# Altium footprint library testpad.PCBLIB: 38 footprints (part 1 of 3)
Each footprint in its own frame and in the unit in brackets; x right, y up, seen from the top. Pads: shape width x height; smd on the part's side, far side on the other; paste and mask are expansions set on the pad; w line width, h text height; cw(c..) or ccw(c..) is an arc to the next point about the centre after c.
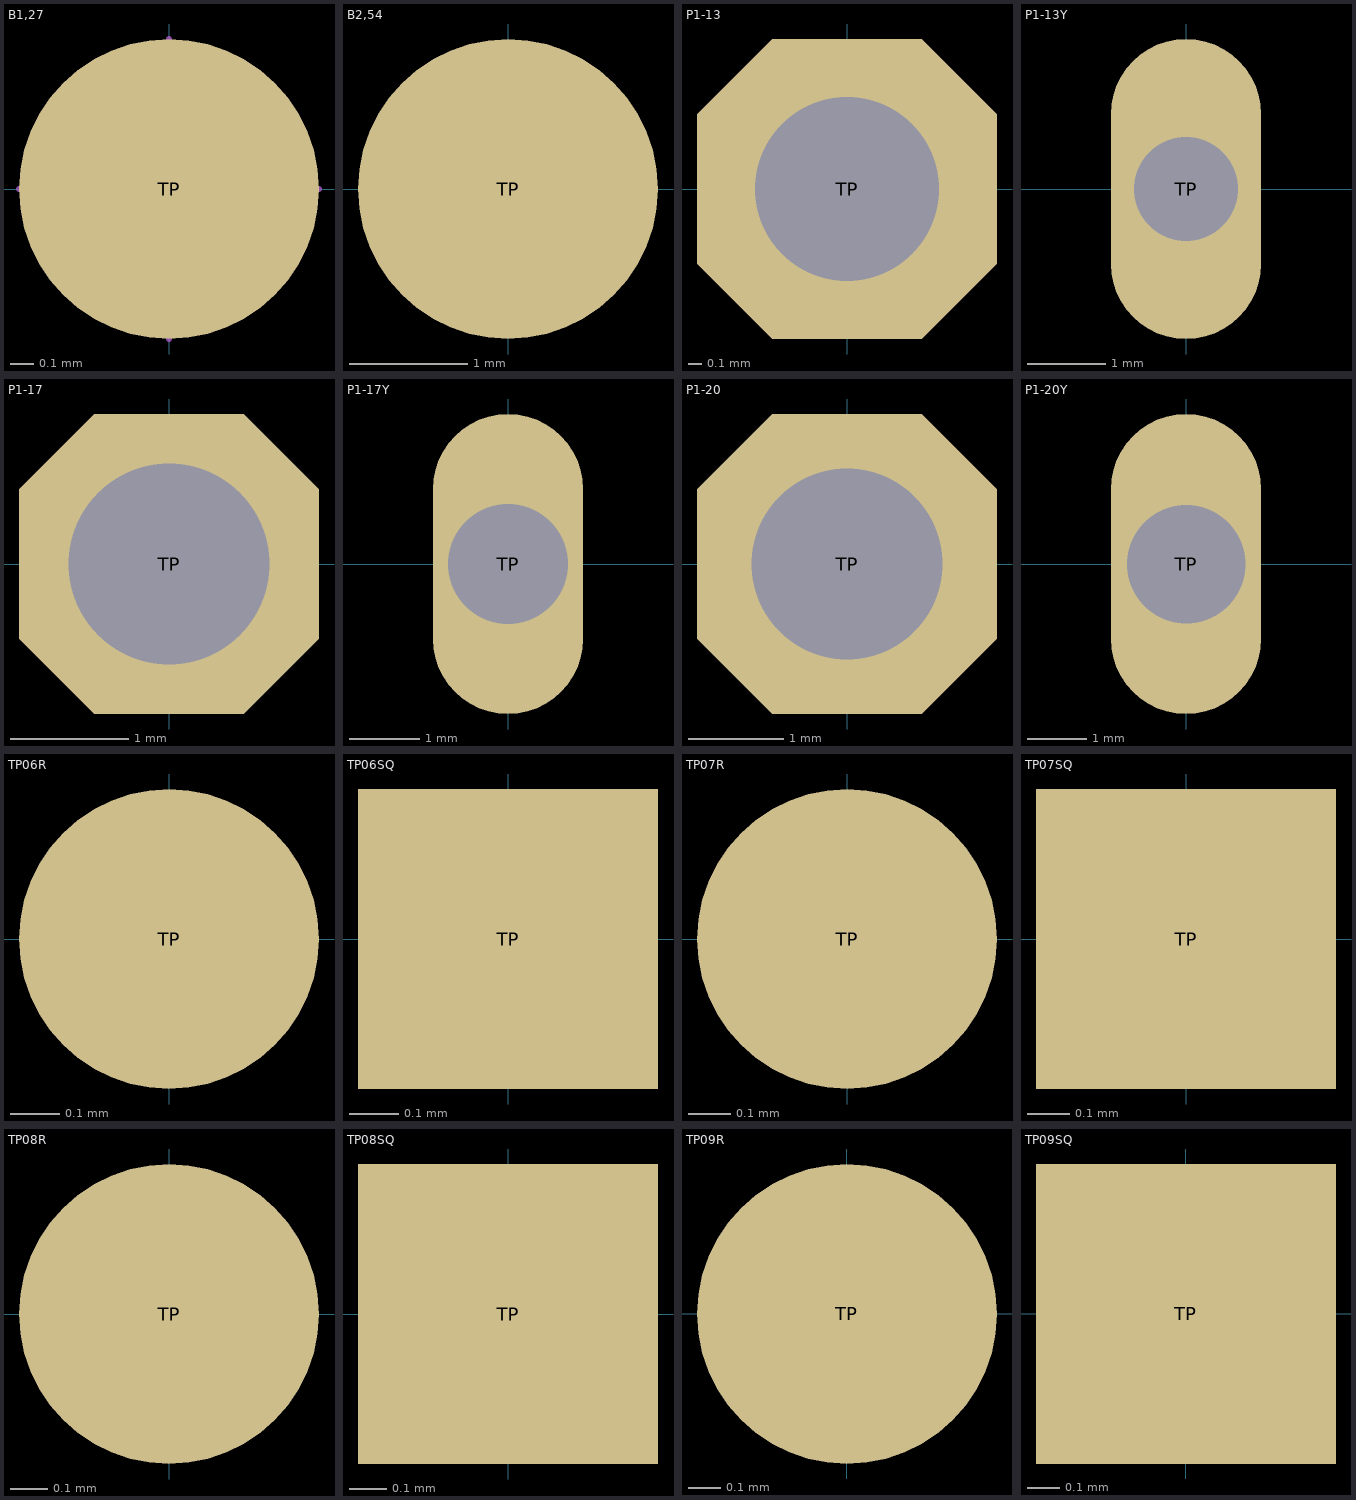
[diagram p0: the footprints below, top view; thin cyan lines are the x and y axes]

## B1,27 [mil]
pads (1):
  rrect100% 50x50 smd: TP(0,0)
Mech33:
  lines w1: -25,0 25,0 ; 0,-25 0,25
  text ">TP_SIGNAL_NAME" at -25,-75 h62

## B2,54 [mil]
pads (1):
  rrect100% 100x100 smd: TP(0,0)
Mech33:
  circle w10: c0,0 r25
  lines w1: -25,0 25,0 ; 0,-25 0,25
  text ">TP_SIGNAL_NAME" at -50,-125 h62

## P1-13 [mil]
pads (1):
  oct 85x85 hole 52: TP(0,0)
Mechanical 16:
  circle w6: c0,0 r30
  rectangle: -13,-13 13,13
Mech33:
  text ">TP_SIGNAL_NAME" at -50,-100 h62

## P1-13Y [mil]
pads (1):
  oval 75x150 hole 52: TP(0,0)
Mechanical 16:
  circle w6: c0,0 r30
  rectangle: -13,-13 13,13
Mech33:
  text ">TP_SIGNAL_NAME" at -50,-150 h62

## P1-17 [mil]
pads (1):
  oct 100x100 hole 67: TP(0,0)
Mechanical 16:
  circle w6: c0,0 r32
  rectangle: -13,-13 13,13
Mech33:
  text ">TP_SIGNAL_NAME" at -50,-125 h62

## P1-17Y [mil]
pads (1):
  oval 84x168 hole 67: TP(0,0)
Mechanical 16:
  circle w6: c0,0 r32
  rectangle: -13,-13 13,13
Mech33:
  text ">TP_SIGNAL_NAME" at -50,-150 h62

## P1-20 [mil]
pads (1):
  oct 124x124 hole 79: TP(0,0)
Mechanical 16:
  circle w6: c0,0 r40
  rectangle: -13,-13 13,13
Mech33:
  text ">TP_SIGNAL_NAME" at -50,-125 h62

## P1-20Y [mil]
pads (1):
  oval 100x200 hole 79: TP(0,0)
Mechanical 16:
  circle w6: c0,0 r40
  rectangle: -13,-13 13,13
Mech33:
  text ">TP_SIGNAL_NAME" at -50,-175 h62

## TP06R [mil]
pads (1):
  rrect100% 24x24 smd: TP(0,0)
Mech33:
  text ">TP_SIGNAL_NAME" at 0,-75 h62

## TP06SQ [mil]
pads (1):
  rect 24x24 smd: TP(0,0)
Mech33:
  text ">TP_SIGNAL_NAME" at 0,-75 h62

## TP07R [mil]
pads (1):
  rrect100% 28x28 smd: TP(0,0)
Mech33:
  text ">TP_SIGNAL_NAME" at 0,-75 h62

## TP07SQ [mil]
pads (1):
  rect 28x28 smd: TP(0,0)
Mech33:
  text ">TP_SIGNAL_NAME" at 0,-75 h62

## TP08R [mil]
pads (1):
  rrect100% 32x32 smd: TP(0,0)
Mech33:
  text ">TP_SIGNAL_NAME" at 0,-75 h62

## TP08SQ [mil]
pads (1):
  rect 32x32 smd: TP(0,0)
Mech33:
  text ">TP_SIGNAL_NAME" at 0,-75 h62

## TP09R [mil]
pads (1):
  rrect100% 36x36 smd: TP(0,0)
Mech33:
  text ">TP_SIGNAL_NAME" at 0,-75 h62

## TP09SQ [mil]
pads (1):
  rect 36x36 smd: TP(0,0)
Mech33:
  text ">TP_SIGNAL_NAME" at 0,-75 h62